# EAGLE library part IS42S16* (library jt-issi)
IS42S16xxx SDRAMx16 device family
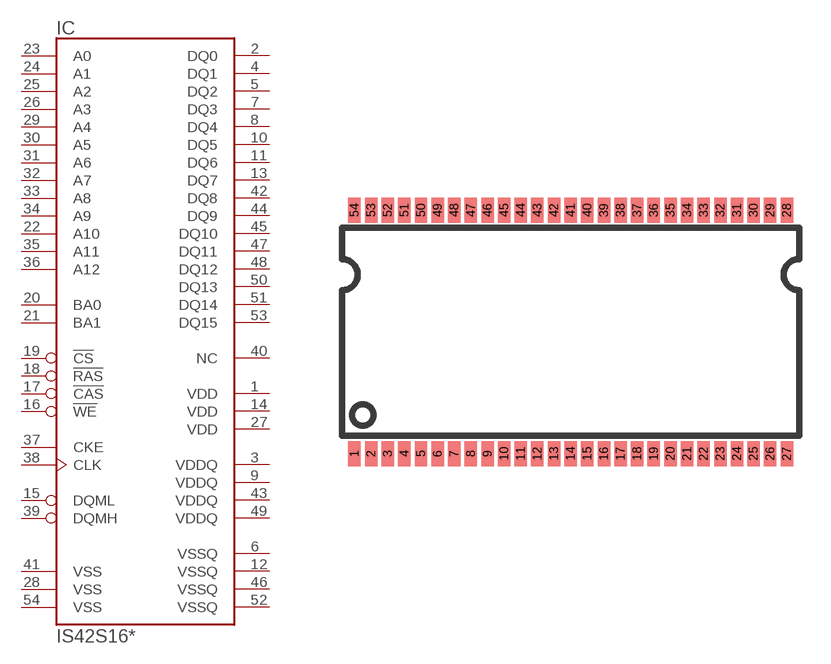
[diagram p0: symbol with the pads of TSOP-54; footprint TSOP-54]

Designator prefix IC

## IS42S16160 (SIZE: 256Mbit), IS42S16400 (SIZE: 64Mbit)  [TSOP-54]
1  VDD  pwr
2  DQ0
3  VDDQ  pwr
4  DQ1
5  DQ2
6  VSSQ  pwr
7  DQ3
8  DQ4
9  VDDQ  pwr
10  DQ5
11  DQ6
12  VSSQ  pwr
13  DQ7
14  VDD  pwr
15  DQML  in
16  !WE  in
17  !CAS  in
18  !RAS  in
19  !CS  in
20  BA0  in
21  BA1  in
22  A10  in
23  A0  in
24  A1  in
25  A2  in
26  A3  in
27  VDD  pwr
28  VSS  pwr
29  A4  in
30  A5  in
31  A6  in
32  A7  in
33  A8  in
34  A9  in
35  A11  in
36  A12  in
37  CKE  in
38  CLK  in
39  DQMH  in
40  NC
41  VSS  pwr
42  DQ8
43  VDDQ  pwr
44  DQ9
45  DQ10
46  VSSQ  pwr
47  DQ11
48  DQ12
49  VDDQ  pwr
50  DQ13
51  DQ14
52  VSSQ  pwr
53  DQ15
54  VSS  pwr

## Footprint TSOP-54 (pad centres in mm)
TSOP-54
smd 0.6 x 1.2: 1 -10.4,-5.85; 2 -9.6,-5.85; 3 -8.8,-5.85; 4 -8,-5.85; 5 -7.2,-5.85; 6 -6.4,-5.85; 7 -5.6,-5.85; 8 -4.8,-5.85; 9 -4,-5.85; 10 -3.2,-5.85; 11 -2.4,-5.85; 12 -1.6,-5.85; 13 -0.8,-5.85; 14 0,-5.85; 15 0.8,-5.85; 16 1.6,-5.85; 17 2.4,-5.85; 18 3.2,-5.85; 19 4,-5.85; 20 4.8,-5.85; 21 5.6,-5.85; 22 6.4,-5.85; 23 7.2,-5.85; 24 8,-5.85; 25 8.8,-5.85; 26 9.6,-5.85; 27 10.4,-5.85; 28 10.4,5.85; 29 9.6,5.85; 30 8.8,5.85; 31 8,5.85; 32 7.2,5.85; 33 6.4,5.85; 34 5.6,5.85; 35 4.8,5.85; 36 4,5.85; 37 3.2,5.85; 38 2.4,5.85; 39 1.6,5.85; 40 0.8,5.85; 41 0,5.85; 42 -0.8,5.85; 43 -1.6,5.85; 44 -2.4,5.85; 45 -3.2,5.85; 46 -4,5.85; 47 -4.8,5.85; 48 -5.6,5.85; 49 -6.4,5.85; 50 -7.2,5.85; 51 -8,5.85; 52 -8.8,5.85; 53 -9.6,5.85; 54 -10.4,5.85